# Altium schematic symbol library Open_Rally_Computer.SCHLIB: 20 symbols
Pins are listed as number, name and electrical type; pins without a type are passive.

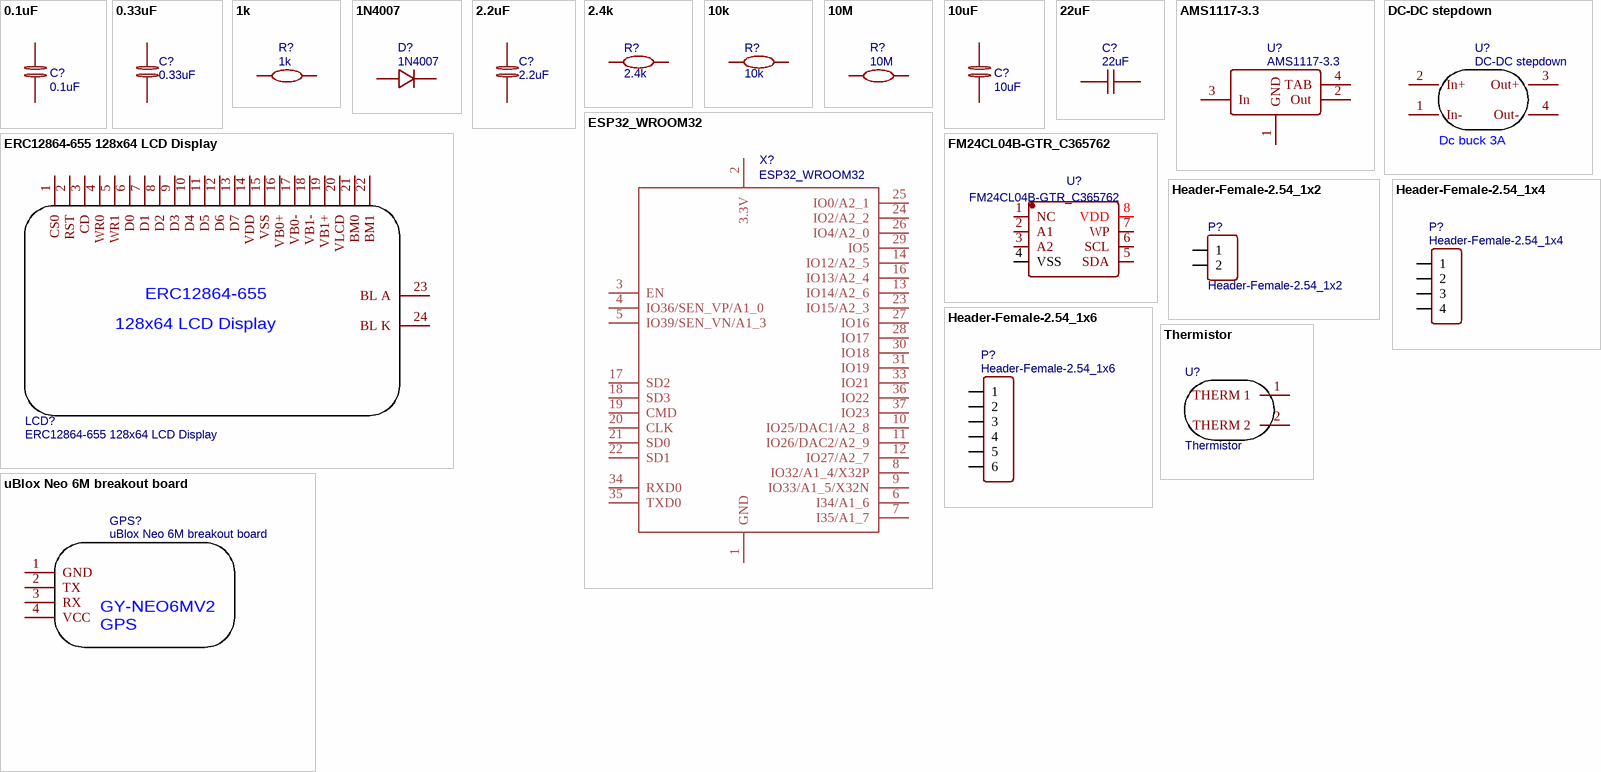
[diagram p0: symbols 0.1uF to uBlox Neo 6M breakout board]

## 0.1uF
designator C?
nameAlias: Value(F); BOM_Manufacturer Part: ?; spicePre: C; spiceSymbolName: Cap_1206_EU
footprint 1206
pins: 1, 2

## 0.33uF
designator C?
nameAlias: Value(F); BOM_Manufacturer Part: ?; spicePre: C; spiceSymbolName: Cap_1206_EU
footprint 1206
pins: 1, 2

## 1k
designator R?
nameAlias: Value(Ω); BOM_Manufacturer Part: ?; spicePre: R; spiceSymbolName: Res_1206(1/4W)_EU
footprint 1206
pins: 1, 2

## 1N4007
designator D?
BOM_Manufacturer: Hottech; Contributor: LCSC; BOM_Supplier Part: C181127; BOM_Supplier: LCSC; BOM_Manufacturer Part: 1N4007; spicePre: D
footprint SOD-123F
pins: 1 +, 2 -

## 2.2uF
designator C?
nameAlias: Value(F); BOM_Manufacturer Part: ?; spicePre: C; spiceSymbolName: Cap_1206_EU
footprint 1206
pins: 1, 2

## 2.4k
designator R?
nameAlias: Value(Ω); BOM_Manufacturer Part: ?; spicePre: R; spiceSymbolName: Res_1206(1/4W)_EU
footprint 1206
pins: 1, 2

## 10k
designator R?
nameAlias: Value(Ω); BOM_Manufacturer Part: ?; spicePre: R; spiceSymbolName: Res_1206(1/4W)_EU
footprint 1206
pins: 1, 2

## 10M
designator R?
nameAlias: Value(Ω); BOM_Manufacturer Part: ?; spicePre: R; spiceSymbolName: Res_1206(1/4W)_EU
footprint 1206
pins: 1, 2

## 10uF
designator C?
nameAlias: Value(F); BOM_Manufacturer Part: ?; spicePre: C; spiceSymbolName: Cap_1206_EU
footprint 1206
pins: 1, 2

## 22uF
designator C?
BOM_Manufacturer: FH; BOM_Manufacturer Part: 1206B226K160NT; nameAlias: Capacitance; BOM_Supplier: LCSC; BOM_Supplier Part: C31847; spicePre: C; spiceSymbolName: 1206B226K160NT
footprint 1206
pins: 1, 2

## AMS1117-3.3
designator U?
BOM_Manufacturer: AMS; sourceId: dwIGgezVh; timeStamp: 1476261164; BOM_Supplier: LCSC; BOM_Manufacturer Part: AMS1117-3.3; BOM_LCSC Assembly: Yes; image: //image.lceda.cn/szlcsc/C6186.jpg; BOM_Supplier Part: C6186; spicePre: U
footprint SOT-223
pins: 1 GND, 2 Out, 3 In, 4 TAB

## DC-DC stepdown
designator U?
Contributor: willumpie; sourceId: mJx7RnvtA; timeStamp: 1472643348; BOM_Manufacturer Part: ?; spicePre: U
footprint DC-DC STEPDOWN
pins: 1 In-, 2 In+, 3 Out+, 4 Out-
text: Dc buck 3A

## ERC12864-655 128x64 LCD Display
designator LCD?
BOM_Manufacturer: EastRising Technology Co.; Contributor: mattogodoy; BOM_Manufacturer Part: ERC12864-655; BOM_Supplier: BuyDisplay.com; BOM_Supplier Part: ERC12864-655; link: https://www.buydisplay.com/download/manual/ERC12864-655_Series_Datasheet.pdf; spicePre: L
footprint ERC12864-655
pins: 1 CS0, 2 RST, 3 CD, 4 WR0, 5 WR1, 6 D0, 7 D1, 8 D2, 9 D3, 10 D4, 11 D5, 12 D6, 13 D7, 14 VDD, 15 VSS, 16 VB0+, 17 VB0-, 18 VB1-, 19 VB1+, 20 VLCD, 21 BM0, 22 BM1, 23 BL A, 24 BL K
text: 128x64 LCD Display

## ESP32_WROOM32
designator X?
Contributor: meggawatts; BOM_Manufacturer Part: ?; spicePre: X
footprint WROOM32
pins: 1 GND, 2 3.3V, 3 EN, 4 IO36/SEN_VP/A1_0, 5 IO39/SEN_VN/A1_3, 6 I34/A1_6, 7 I35/A1_7, 8 IO32/A1_4/X32P, 9 IO33/A1_5/X32N, 10 IO25/DAC1/A2_8, 11 IO26/DAC2/A2_9, 12 IO27/A2_7, 13 IO14/A2_6, 14 IO12/A2_5, 15 GND, 16 IO13/A2_4, 17 SD2, 18 SD3, 19 CMD, 20 CLK, 21 SD0, 22 SD1, 23 IO15/A2_3, 24 IO2/A2_2, 25 IO0/A2_1, 26 IO4/A2_0, 27 IO16, 28 IO17, 29 IO5, 30 IO18, 31 IO19, 33 IO21, 34 RXD0, 35 TXD0, 36 IO22, 37 IO23, 38 GND, P$1 GND

## FM24CL04B-GTR_C365762
designator U?
BOM_Manufacturer: Cypress Semicon; Contributor: LCSC; BOM_Supplier: LCSC; BOM_Supplier Part: C365762; BOM_Manufacturer Part: FM24CL04B-GTR; spicePre: U
footprint SOIC-8_150MIL
pins: 1 NC, 2 A1, 3 A2, 4 VSS, 5 SDA, 6 SCL, 7 WP, 8 VDD

## Header-Female-2.54_1x2
designator P?
BOM_Manufacturer: BOOMELE; BOM_Manufacturer Part: 2.54-1*2PFemale; Contributor: LCSC; BOM_Supplier: LCSC; image: //image.lceda.cn/szlcsc/C49661.jpg; BOM_Supplier Part: C49661; spicePre: P
footprint HDR-1X2/2.54
pins: 1, 2

## Header-Female-2.54_1x4
designator P?
BOM_Manufacturer: ReliaPro; BOM_Supplier: LCSC; BOM_Manufacturer Part: Header-Female-2.54_1x4; BOM_Supplier Part: C124413; spicePre: P
footprint HDR-4X1/2.54
pins: 1, 2, 3, 4

## Header-Female-2.54_1x6
designator P?
BOM_Manufacturer: BOOMELE; BOM_Manufacturer Part: Female header 1*6p; BOM_Supplier: LCSC; BOM_Supplier Part: C40877; spicePre: P
footprint HDR-6X1/2.54
pins: 1, 2, 3, 4, 5, 6

## Thermistor
designator U?
Contributor: xstaticgrey; timeStamp: 1468783036; BOM_Manufacturer Part: ?; spicePre: U
footprint THERMISTOR-PCB
pins: 1 THERM 1, 2 THERM 2

## uBlox Neo 6M breakout board
designator GPS?
BOM_Manufacturer Part: GY-NEO6MV2; Contributor: mattogodoy; BOM_Supplier Part: GY-NEO6MV2; spicePre: G
footprint GY-NEO6MV2
pins: 1 GND, 2 TX, 3 RX, 4 VCC
text: GY-NEO6MV2 / GPS